# EAGLE library part 404-51080-5X (library con-ept-one27)
ept One27 female right angled 80pins 1.27 mm pitch SMT Board-to-Board Connector System for parallel, horizontal and perpendicular PCB connections as well as cable-to-board connections. For mezzanine board-to-board connections from 8mm up to 13.8mm. Available with 12 to 80 pins. www.ept.de
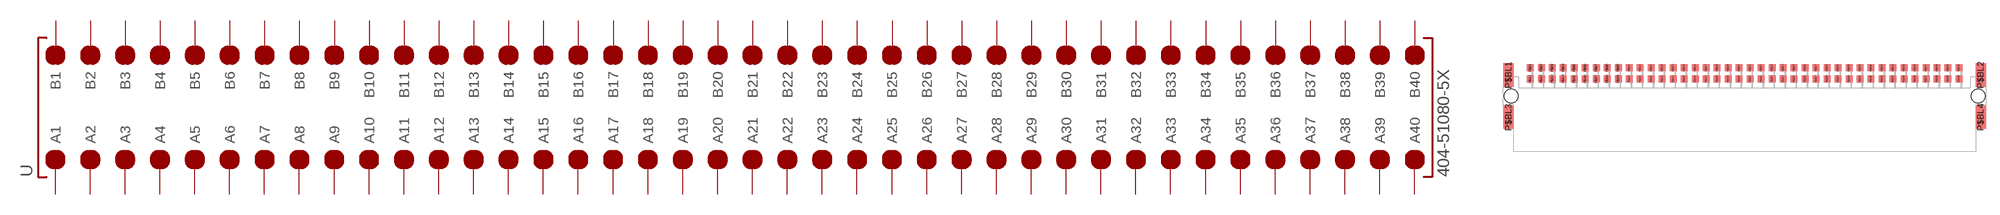
[diagram p35: symbol with the pads of 404-51080-5X; footprint 404-51080-5X]

Designator prefix -

## 404-51080-5X  [404-51080-5X]
P$A1  A1  pas
P$A2  A2  pas
P$A3  A3  pas
P$A4  A4  pas
P$A5  A5  pas
P$A6  A6  pas
P$A7  A7  pas
P$A8  A8  pas
P$A9  A9  pas
P$A10  A10  pas
P$A11  A11  pas
P$A12  A12  pas
P$A13  A13  pas
P$A14  A14  pas
P$A15  A15  pas
P$A16  A16  pas
P$A17  A17  pas
P$A18  A18  pas
P$A19  A19  pas
P$A20  A20  pas
P$A21  A21  pas
P$A22  A22  pas
P$A23  A23  pas
P$A24  A24  pas
P$A25  A25  pas
P$A26  A26  pas
P$A27  A27  pas
P$A28  A28  pas
P$A29  A29  pas
P$A30  A30  pas
P$A31  A31  pas
P$A32  A32  pas
P$A33  A33  pas
P$A34  A34  pas
P$A35  A35  pas
P$A36  A36  pas
P$A37  A37  pas
P$A38  A38  pas
P$A39  A39  pas
P$A40  A40  pas
P$B1  B1  pas
P$B2  B2  pas
P$B3  B3  pas
P$B4  B4  pas
P$B5  B5  pas
P$B6  B6  pas
P$B7  B7  pas
P$B8  B8  pas
P$B9  B9  pas
P$B10  B10  pas
P$B11  B11  pas
P$B12  B12  pas
P$B13  B13  pas
P$B14  B14  pas
P$B15  B15  pas
P$B16  B16  pas
P$B17  B17  pas
P$B18  B18  pas
P$B19  B19  pas
P$B20  B20  pas
P$B21  B21  pas
P$B22  B22  pas
P$B23  B23  pas
P$B24  B24  pas
P$B25  B25  pas
P$B26  B26  pas
P$B27  B27  pas
P$B28  B28  pas
P$B29  B29  pas
P$B30  B30  pas
P$B31  B31  pas
P$B32  B32  pas
P$B33  B33  pas
P$B34  B34  pas
P$B35  B35  pas
P$B36  B36  pas
P$B37  B37  pas
P$B38  B38  pas
P$B39  B39  pas
P$B40  B40  pas

## Footprint 404-51080-5X (pad centres in mm)
ept One27 female right angled 80pins 1.27 mm pitch SMT Board-to-Board Connector System for parallel, horizontal and perpendicular PCB connections as well as cable-to-board connections. For mezzanine board-to-board connections from 8mm up to 13.8mm. Available with 12 to 80 pins. www.ept.de
smd 0.8 x 0.8: P$A1 -24.765,3.27; P$A2 -23.495,3.27; P$A3 -22.225,3.27; P$A4 -20.955,3.27; P$A5 -19.685,3.27; P$A6 -18.415,3.27; P$A7 -17.145,3.27; P$A8 -15.875,3.27; P$A9 -14.605,3.27; P$A10 -13.335,3.27; P$A11 -12.065,3.27; P$A12 -10.795,3.27; P$A13 -9.525,3.27; P$A14 -8.255,3.27; P$A15 -6.985,3.27; P$A16 -5.715,3.27; P$A17 -4.445,3.27; P$A18 -3.175,3.27; P$A19 -1.905,3.27; P$A20 -0.635,3.27; P$A21 0.635,3.27; P$A22 1.905,3.27; P$A23 3.175,3.27; P$A24 4.445,3.27; P$A25 5.715,3.27; P$A26 6.985,3.27; P$A27 8.255,3.27; P$A28 9.525,3.27; P$A29 10.795,3.27; P$A30 12.065,3.27; P$A31 13.335,3.27; P$A32 14.605,3.27; P$A33 15.875,3.27; P$A34 17.145,3.27; P$A35 18.415,3.27; P$A36 19.685,3.27; P$A37 20.955,3.27; P$A38 22.225,3.27; P$A39 23.495,3.27; P$A40 24.765,3.27; P$B1 -24.765,4.54; P$B2 -23.495,4.54; P$B3 -22.225,4.54; P$B4 -20.955,4.54; P$B5 -19.685,4.54; P$B6 -18.415,4.54; P$B7 -17.145,4.54; P$B8 -15.875,4.54; P$B9 -14.605,4.54; P$B10 -13.335,4.54; P$B11 -12.065,4.54; P$B12 -10.795,4.54; P$B13 -9.525,4.54; P$B14 -8.255,4.54; P$B15 -6.985,4.54; P$B16 -5.715,4.54; P$B17 -4.445,4.54; P$B18 -3.175,4.54; P$B19 -1.905,4.54; P$B20 -0.635,4.54; P$B21 0.635,4.54; P$B22 1.905,4.54; P$B23 3.175,4.54; P$B24 4.445,4.54; P$B25 5.715,4.54; P$B26 6.985,4.54; P$B27 8.255,4.54; P$B28 9.525,4.54; P$B29 10.795,4.54; P$B30 12.065,4.54; P$B31 13.335,4.54; P$B32 14.605,4.54; P$B33 15.875,4.54; P$B34 17.145,4.54; P$B35 18.415,4.54; P$B36 19.685,4.54; P$B37 20.955,4.54; P$B38 22.225,4.54; P$B39 23.495,4.54; P$B40 24.765,4.54
smd 1.2 x 2.7: P$BL1 -27.275,3.72; P$BL2 27.275,3.72; P$BL3 -27.275,-1.18; P$BL4 27.275,-1.18
hole 1.6 at -26.975,1.27
hole 1.6 at 26.975,1.27